# EAGLE library part MMDT3946 (library template)
Complementary NPN/PNP Small Singal Surface Mount Transistor http://www.datasheetcatalog.org/datasheet/diodes/ds30123.pdf
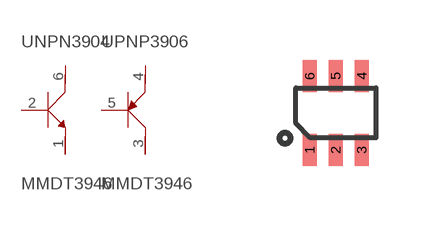
[diagram p14: symbol with the pads of SOT363; footprint SOT363]

Designator prefix U; gates PNP3906=PNP NPN3904=NPN

## MMDT3946  [SOT363]
1  NPN3904:E
2  NPN3904:B
3  PNP3906:C
4  PNP3906:E
5  PNP3906:B
6  NPN3904:C

## Footprint SOT363 (pad centres in mm)
smd 0.35 x 0.8: 1 -0.65,-0.925; 2 0,-0.925; 3 0.65,-0.925; 4 0.65,0.925; 5 0,0.925; 6 -0.65,0.925